# Altium footprint library SMD-SOTxx.PcbLib: 24 footprints (part 2 of 2)
Each footprint in its own frame and in the unit in brackets; x right, y up, seen from the top. Pads: shape width x height; smd on the part's side, far side on the other; paste and mask are expansions set on the pad; w line width, h text height; cw(c..) or ccw(c..) is an arc to the next point about the centre after c.
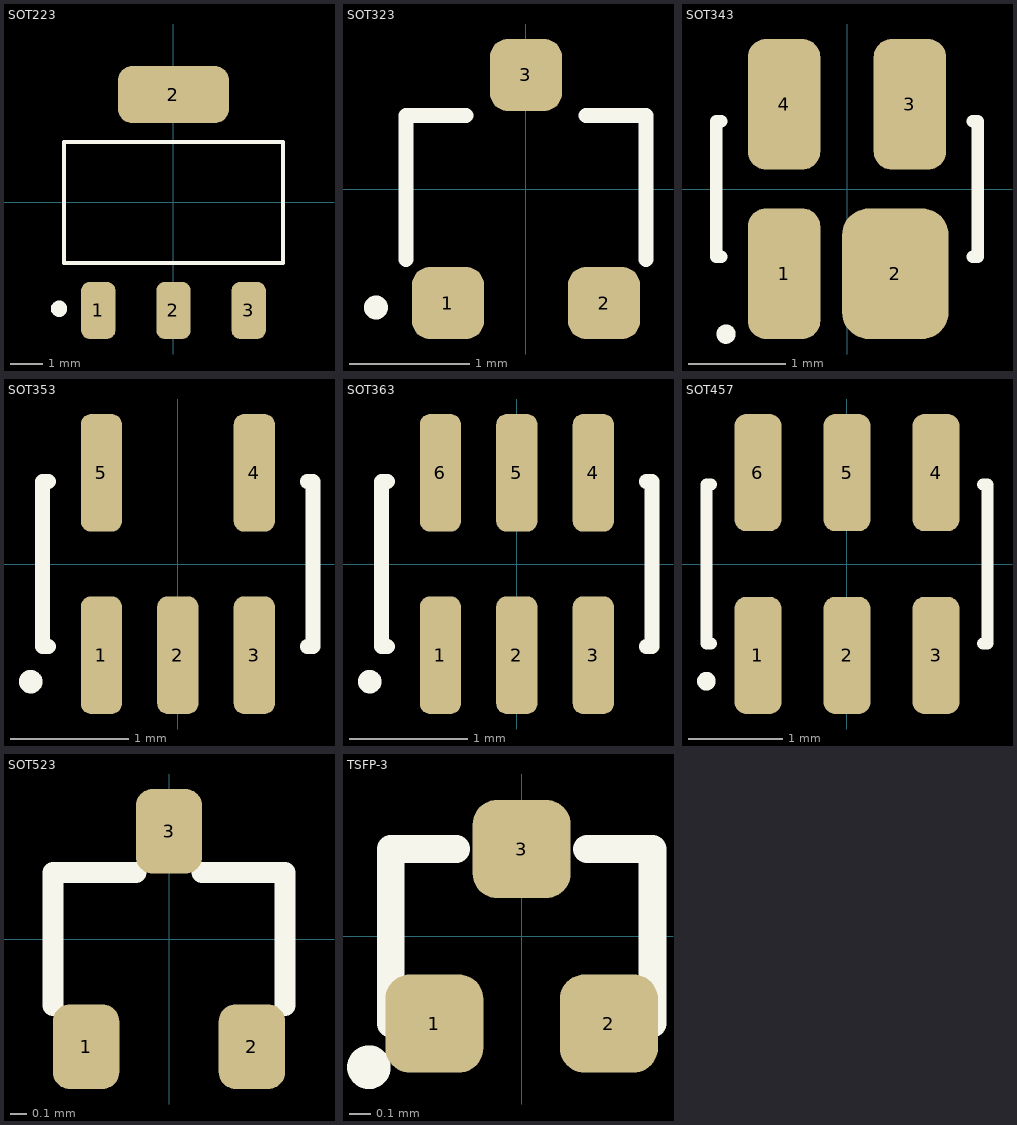
[diagram p1: the footprints below, top view; thin cyan lines are the x and y axes]

## SOT223 [mm] "SOT-223/SC-73; 4 Leads; Body 6.7 x 7.3 mm, inc. leads (LxW max)"
height 1.8
pads (4):
  rrect50% 1.05x1.75 smd: 1(-2.3,-3.3) 2(0,-3.3) 3(2.3,-3.3)
  rrect50% 3.4x1.75 smd: 2(0,3.3)
Top Overlay:
  circle w0.25: c-3.5,-3.25 r0.125
  lines w0.127: -3.35,-1.85 -3.35,1.85 3.35,1.85 3.35,-1.85 -3.35,-1.85
3D body: height 1.64, standoff -0.01, extent -3.25,-3.5 3.25,3.5

## SOT323 [mm] "SOT-323/SC-70; 3 Leads; Body 2.2 x 2.2 mm, inc. leads (LxW max)"
height 1
pads (3):
  rrect50% 0.6x0.6 smd: 1(-0.65,-0.95) 2(0.65,-0.95) 3(0,0.95)
Top Overlay:
  circle w0.1: c-1.25,-0.987 r0.05
  lines w0.127: -1,-0.587 -1,0.613 -0.5,0.613 ; 0.5,0.613 1,0.613 1,-0.587
3D body: height 0.9, standoff 0, extent -1.05,-1.037 1.05,1.063

## SOT343 [mm] "SOT-343; 4 Leads; Body 2.2 x 2.2 mm, inc. leads (LxW max)"
height 1
pads (4):
  rrect50% 0.75x1.35 smd: 1(-0.65,-0.875) 3(0.65,0.875) 4(-0.65,0.875)
  rrect50% 1.1x1.35 smd: 2(0.5,-0.875)
Top Overlay:
  circle w0.1: c-1.25,-1.5 r0.05
  lines w0.127: -1.3,-0.7 -1.35,-0.7 -1.35,0.7 -1.3,0.7 ; 1.3,-0.7 1.35,-0.7 1.35,0.7 1.3,0.7
3D body: height 1, standoff 0, extent -1.1,-1.1 1.1,1.1

## SOT353 [mm] "SOT-353/SC-88A; 5 Leads; Body 2.2 x 2.2 mm, inc. leads (LxW max)"
height 1
pads (5):
  rrect50% 0.35x1 smd: 1(-0.65,-0.775) 2(0,-0.775) 3(0.65,-0.775) 4(0.65,0.775) 5(-0.65,0.775)
Top Overlay:
  circle w0.1: c-1.25,-1 r0.05
  lines w0.127: -1.1,-0.7 -1.15,-0.7 -1.15,0.7 -1.1,0.7 ; 1.1,-0.7 1.15,-0.7 1.15,0.7 1.1,0.7
3D body: height 1, standoff 0, extent -1.05,-1.15 1.05,1.15

## SOT363 [mm] "SOT-363/SC-88; 6 Leads; Body 2.2 x 2.2 mm, inc. leads (LxW max)"
height 1
pads (6):
  rrect50% 0.35x1 smd: 1(-0.65,-0.775) 2(0,-0.775) 3(0.65,-0.775) 4(0.65,0.775) 5(0,0.775) 6(-0.65,0.775)
Top Overlay:
  circle w0.1: c-1.25,-1 r0.05
  lines w0.127: -1.1,-0.7 -1.15,-0.7 -1.15,0.7 -1.1,0.7 ; 1.1,-0.7 1.15,-0.7 1.15,0.7 1.1,0.7
3D body: height 0.95, standoff -0.04, extent -1,-1.05 1,1.05

## SOT457 [mm] "SOT-457/SC-74; 6 Leads; Body 3.1 x 2.6 mm, inc. leads (LxW max)"
height 1.1
pads (6):
  rrect50% 0.5x1.25 smd: 1(-0.95,-0.975) 2(0,-0.975) 3(0.95,-0.975) 4(0.95,0.975) 5(0,0.975) 6(-0.95,0.975)
Top Overlay:
  circle w0.1: c-1.5,-1.25 r0.05
  lines w0.127: -1.45,-0.85 -1.5,-0.85 -1.5,0.85 -1.45,0.85 ; 1.45,-0.85 1.5,-0.85 1.5,0.85 1.45,0.85
3D body: height 0.94, standoff -0.09, extent -1.5,-1.385 1.5,1.386

## SOT523 [mm] "SOT-323/SC-70; 3 Leads; Body 2.2 x 2.2 mm, inc. leads (LxW max)"
height 1
pads (3):
  rrect50% 0.4x0.51 smd: 1(-0.5,-0.65) 2(0.5,-0.65) 3(0,0.65)
Top Overlay:
  lines w0.127: -0.7,-0.4 -0.7,0.4 -0.2,0.4 ; 0.2,0.4 0.7,0.4 0.7,-0.4
3D body: height 0.8, standoff 0, extent -0.8,-0.8 0.8,0.8

## TSFP-3 [mm] "1.2x1.2mm"
height 1
pads (3):
  rrect50% 0.45x0.45 smd: 1(-0.4,-0.4) 2(0.4,-0.4) 3(0,0.4)
Top Overlay:
  circle w0.1: c-0.7,-0.6 r0.05
  lines w0.127: -0.6,-0.4 -0.6,0.4 -0.3,0.4 ; 0.3,0.4 0.6,0.4 0.6,-0.4